# EAGLE library part TXB0102 (library TXB0102)
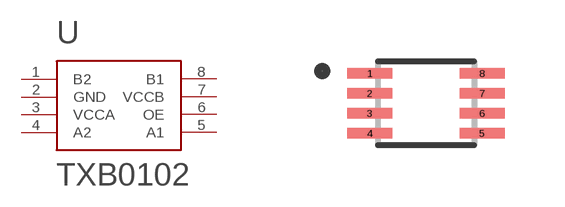
[diagram p0: symbol with the pads of SOP50P310X90-8N; footprint SOP50P310X90-8N]

Designator prefix U

## TXB0102 (Availability: Unavailable; Description: 2-Bit Bidirectional Voltage-Level Translator with Auto Direction Sensing and +/-15-kV ESD Protect; MF: Texas Instruments; MP: TXB0102; Package: None; Price: None)  [SOP50P310X90-8N]
1  B2
2  GND
3  VCCA
4  A2
5  A1
6  OE
7  VCCB
8  B1

## Footprint SOP50P310X90-8N (pad centres in mm)
PS (R-PDSO-G8) Source: http://focus.ti.com .. sn65176b.pdf
smd 1.12 x 0.27: 1 -1.405,0.75; 2 -1.405,0.25; 3 -1.405,-0.25; 4 -1.405,-0.75; 5 1.405,-0.75; 6 1.405,-0.25; 7 1.405,0.25; 8 1.405,0.75